# Altium integrated library Cypress Communication Transceiver.IntLib: 7 symbols
Pins are listed as number, name and electrical type; pins without a type are passive.

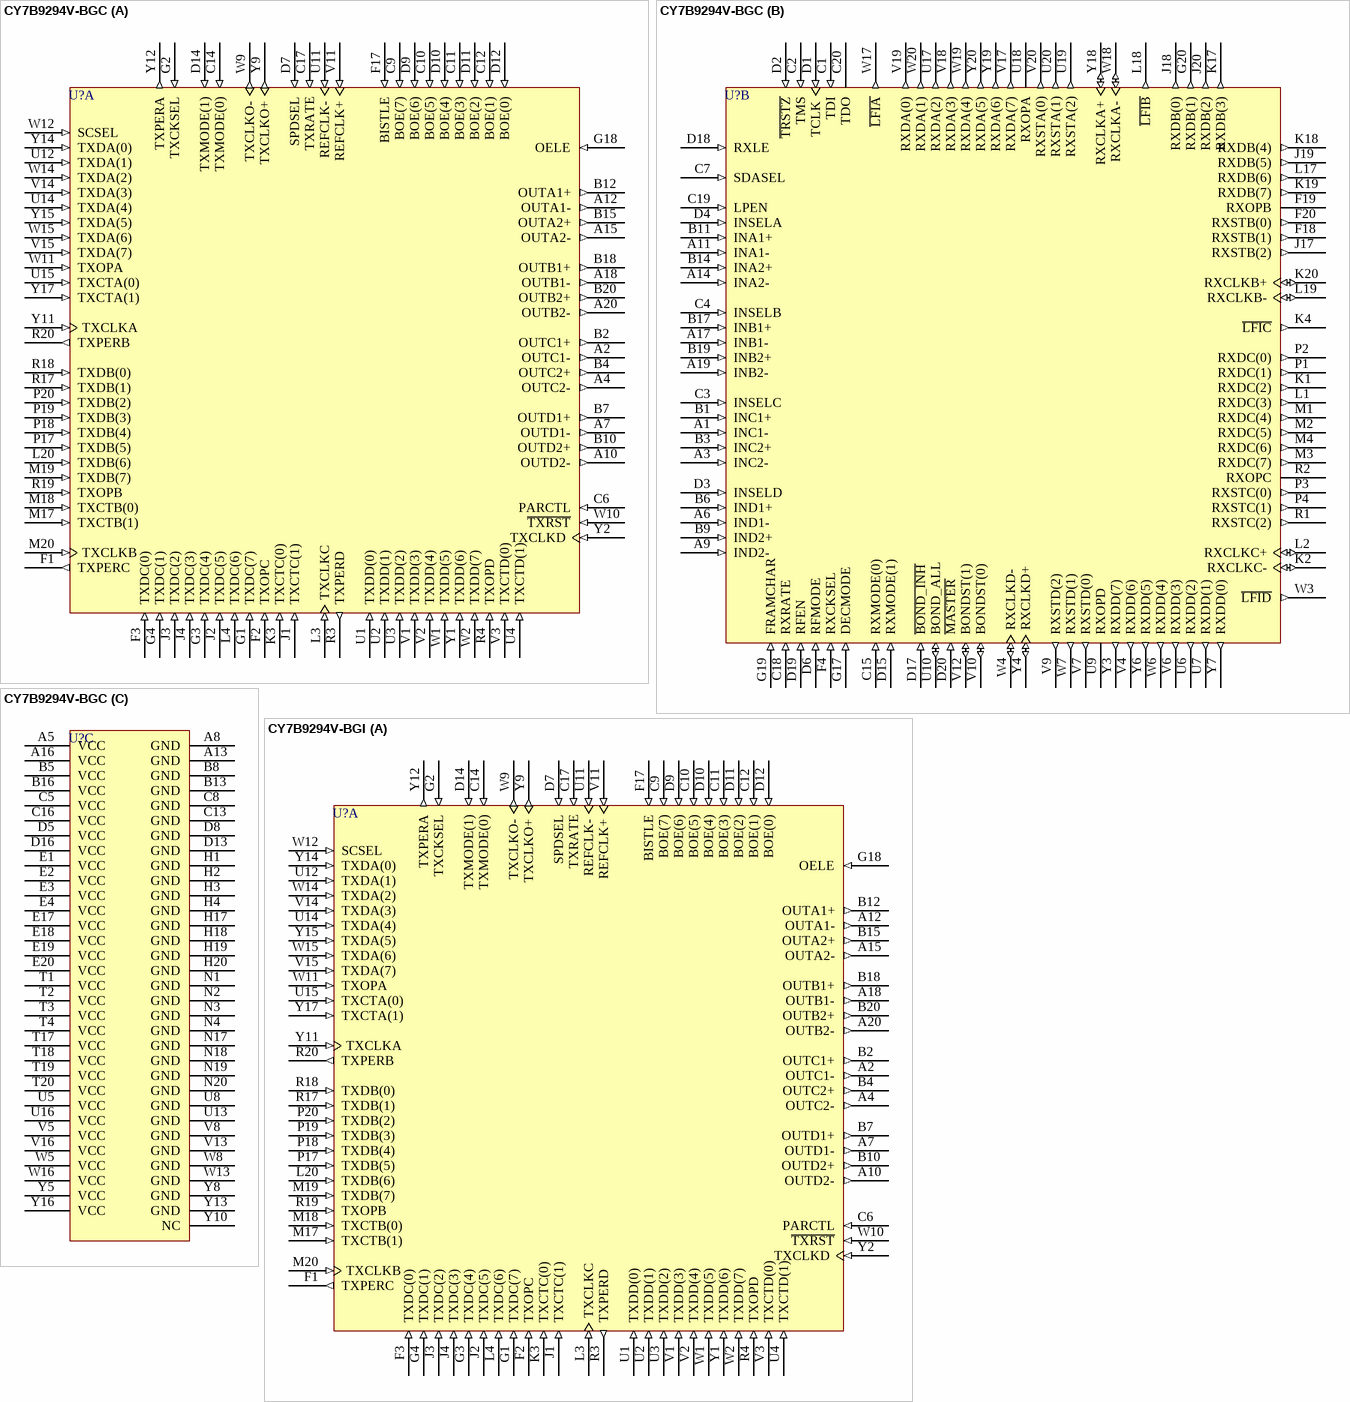
[diagram p0: symbols CY7B9294V-BGC to CY7B9294V-BGI]

## CY7B9294V-BGC
designator U?
Quad HOTLink-II Transceiver; Published: 11-Dec-2002; LatestRevisionDate: 13-Apr-2006; LatestRevisionNote: IPC-7351 Footprint Added.; DatasheetVersion: 27-Feb-2001; PackageVersion: Feb-2001; PackageReference: BG256A; Publisher: Altium Limited; PackageDescription: 256-Ball Thermally Enhanced Ball Grid Array 1.27 mm Pitch; ComponentLink1Description: Manufacturer Link; ComponentLink1URL: http://www.cypress.com/
footprint BG256A (BGA, 256-Leads, Body 27x27mm, Pitch 1.27mm)
3D model CY7B9294V-BG256A (256-Ball Thermally Enhanced Ball Grid Array 1.27 mm Pitch)
part A pins: A2 OUTC1- (out), A4 OUTC2- (out), A7 OUTD1- (out), A10 OUTD2- (out), A12 OUTA1- (out), A15 OUTA2- (out), A18 OUTB1- (out), A20 OUTB2- (out), B2 OUTC1+ (out), B4 OUTC2+ (out), B7 OUTD1+ (out), B10 OUTD2+ (out), B12 OUTA1+ (out), B15 OUTA2+ (out), B18 OUTB1+ (out), B20 OUTB2+ (out), C6 PARCTL (in), C9 BOE(7) (in), C10 BOE(5) (in), C11 BOE(3) (in), C12 BOE(1) (in), C14 TXMODE(0) (in), C17 TXRATE (in), D7 SPDSEL (in), D9 BOE(6) (in), D10 BOE(4) (in), D11 BOE(2) (in), D12 BOE(0) (in), D14 TXMODE(1) (in), F1 TXPERC (out), F2 TXOPC (in), F3 TXDC(0) (in), F17 BISTLE (in), G1 TXDC(7) (in), G2 TXCKSEL (in), G3 TXDC(4) (in), G4 TXDC(1) (in), G18 OELE (in), J1 TXCTC(1) (in), J2 TXDC(5) (in), J3 TXDC(2) (in), J4 TXDC(3) (in), K3 TXCTC(0) (in), L3 TXCLKC (in), L4 TXDC(6) (in), L20 TXDB(6) (in), M17 TXCTB(1) (in), M18 TXCTB(0) (in), M19 TXDB(7) (in), M20 TXCLKB (in), P17 TXDB(5) (in), P18 TXDB(4) (in), P19 TXDB(3) (in), P20 TXDB(2) (in), R3 TXPERD (out), R4 TXOPD (in), R17 TXDB(1) (in), R18 TXDB(0) (in), R19 TXOPB (in), R20 TXPERB (out), U1 TXDD(0) (in), U2 TXDD(1) (in), U3 TXDD(2) (in), U4 TXCTD(1) (in), U11 REFCLK- (in), U12 TXDA(1) (in), U14 TXDA(4) (in), U15 TXCTA(0) (in), V1 TXDD(3) (in), V2 TXDD(4) (in), V3 TXCTD(0) (in), V11 REFCLK+ (in), V14 TXDA(3) (in), V15 TXDA(7) (in), W1 TXDD(5) (in), W2 TXDD(7) (in), W9 TXCLKO- (out), W10 ~{TXRST} (in), W11 TXOPA (in), W12 SCSEL (in), W14 TXDA(2) (in), W15 TXDA(6) (in), Y1 TXDD(6) (in), Y2 TXCLKD (in), Y9 TXCLKO+ (out), Y11 TXCLKA (in), Y12 TXPERA (out), Y14 TXDA(0) (in), Y15 TXDA(5) (in), Y17 TXCTA(1) (in)
part B pins: A1 INC1- (in), A3 INC2- (in), A6 IND1- (in), A9 IND2- (in), A11 INA1- (in), A14 INA2- (in), A17 INB1- (in), A19 INB2- (in), B1 INC1+ (in), B3 INC2+ (in), B6 IND1+ (in), B9 IND2+ (in), B11 INA1+ (in), B14 INA2+ (in), B17 INB1+ (in), B19 INB2+ (in), C1 TDI (in), C2 TMS (in), C3 INSELC (in), C4 INSELB (in), C7 SDASEL (in), C15 RXMODE(0) (in), C18 RXRATE (in), C19 LPEN (in), C20 TDO (hiz), D1 TCLK (in), D2 ~{TRSTZ} (in), D3 INSELD (in), D4 INSELA (in), D6 RFMODE (in), D15 RXMODE(1) (in), D17 ~{BOND_INH} (in), D18 RXLE (in), D19 RFEN (in), D20 ~{MASTER} (in), F4 RXCKSEL (in), F18 RXSTB(1) (out), F19 RXOPB (hiz), F20 RXSTB(0) (out), G17 DECMODE (in), G19 FRAMCHAR (in), G20 RXDB(1) (out), J17 RXSTB(2) (out), J18 RXDB(0) (out), J19 RXDB(5) (out), J20 RXDB(2) (out), K1 RXDC(2) (out), K2 RXCLKC- (io), K4 ~{LFIC} (out), K17 RXDB(3) (out), K18 RXDB(4) (out), K19 RXDB(7) (out), K20 RXCLKB+ (io), L1 RXDC(3) (out), L2 RXCLKC+ (io), L17 RXDB(6) (out), L18 ~{LFIB} (out), L19 RXCLKB- (io), M1 RXDC(4) (out), M2 RXDC(5) (out), M3 RXDC(7) (out), M4 RXDC(6) (out), P1 RXDC(1) (out), P2 RXDC(0) (out), P3 RXSTC(0) (out), P4 RXSTC(1) (out), R1 RXSTC(2) (out), R2 RXOPC (hiz), U6 RXDD(2) (out), U7 RXDD(1) (out), U9 RXOPD (hiz), U10 BOND_ALL (io), U17 RXDA(2) (out), U18 RXOPA (hiz), U19 RXSTA(2) (out), U20 RXSTA(1) (out), V4 RXDD(6) (out), V6 RXDD(3) (out), V7 RXSTD(0) (out), V9 RXSTD(2) (out), V10 BONDST(0) (io), V12 BONDST(1) (io), V17 RXDA(7) (out), V18 RXDA(3) (out), V19 RXDA(0) (out), V20 RXSTA(0) (out), W3 ~{LFID} (out), W4 RXCLKD- (io), W6 RXDD(4) (out), W7 RXSTD(1) (out), W17 ~{LFIA} (out), W18 RXCLKA- (io), W19 RXDA(4) (out), W20 RXDA(1) (out), Y3 RXDD(7) (out), Y4 RXCLKD+ (io), Y6 RXDD(5) (out), Y7 RXDD(0) (out), Y18 RXCLKA+ (io), Y19 RXDA(6) (out), Y20 RXDA(5) (out)
part C pins: A5 VCC (power), A8 GND (power), A13 GND (power), A16 VCC (power), B5 VCC (power), B8 GND (power), B13 GND (power), B16 VCC (power), C5 VCC (power), C8 GND (power), C13 GND (power), C16 VCC (power), D5 VCC (power), D8 GND (power), D13 GND (power), D16 VCC (power), E1 VCC (power), E2 VCC (power), E3 VCC (power), E4 VCC (power), E17 VCC (power), E18 VCC (power), E19 VCC (power), E20 VCC (power), H1 GND (power), H2 GND (power), H3 GND (power), H4 GND (power), H17 GND (power), H18 GND (power), H19 GND (power), H20 GND (power), N1 GND (power), N2 GND (power), N3 GND (power), N4 GND (power), N17 GND (power), N18 GND (power), N19 GND (power), N20 GND (power), T1 VCC (power), T2 VCC (power), T3 VCC (power), T4 VCC (power), T17 VCC (power), T18 VCC (power), T19 VCC (power), T20 VCC (power), U5 VCC (power), U8 GND (power), U13 GND (power), U16 VCC (power), V5 VCC (power), V8 GND (power), V13 GND (power), V16 VCC (power), W5 VCC (power), W8 GND (power), W13 GND (power), W16 VCC (power), Y5 VCC (power), Y8 GND (power), Y10 NC, Y13 GND (power), Y16 VCC (power)

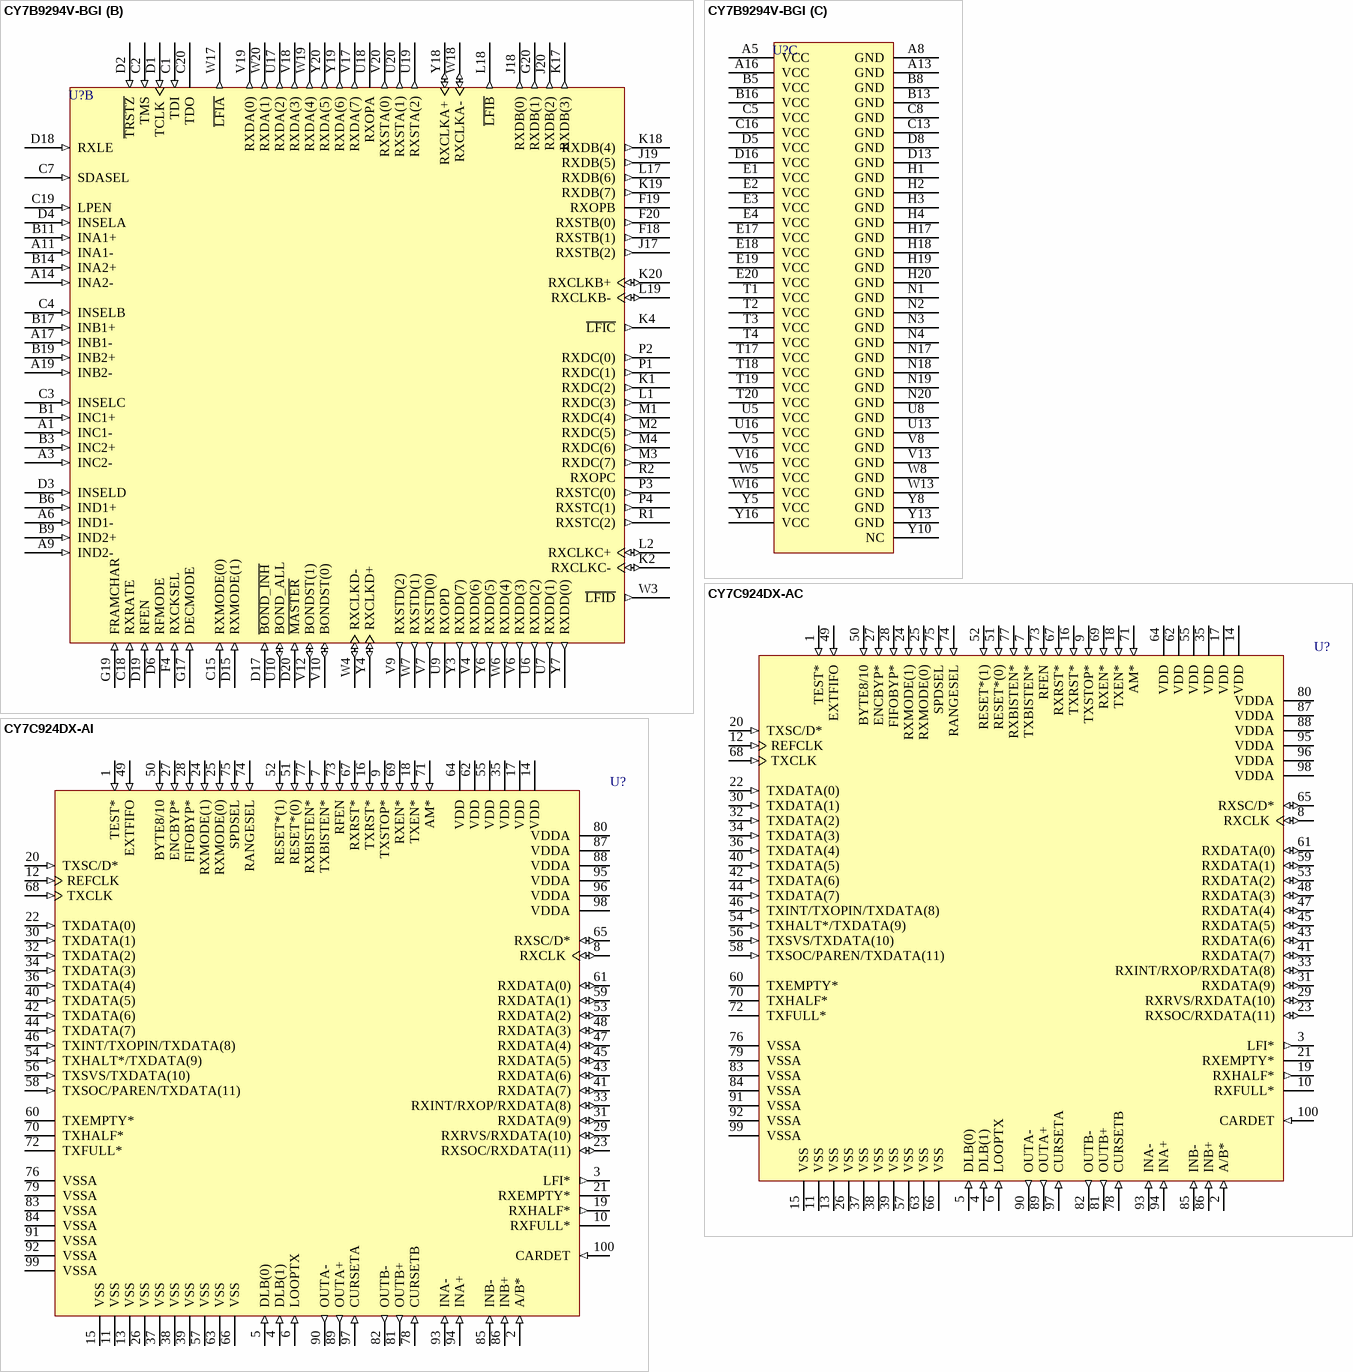
[diagram p1: symbols CY7B9294V-BGI to CY7C924DX-AI]

## CY7B9294V-BGI
designator U?
Quad HOTLink-II Transceiver; Published: 11-Dec-2002; LatestRevisionDate: 13-Apr-2006; LatestRevisionNote: IPC-7351 Footprint Added.; DatasheetVersion: 27-Feb-2001; PackageVersion: Feb-2001; PackageReference: BG256A; Publisher: Altium Limited; PackageDescription: 256-Ball Thermally Enhanced Ball Grid Array 1.27 mm Pitch; ComponentLink1Description: Manufacturer Link; ComponentLink1URL: http://www.cypress.com/
footprint BG256A (BGA, 256-Leads, Body 27x27mm, Pitch 1.27mm)
3D model CY7B9294V-BG256A (256-Ball Thermally Enhanced Ball Grid Array 1.27 mm Pitch)
part A pins: A2 OUTC1- (out), A4 OUTC2- (out), A7 OUTD1- (out), A10 OUTD2- (out), A12 OUTA1- (out), A15 OUTA2- (out), A18 OUTB1- (out), A20 OUTB2- (out), B2 OUTC1+ (out), B4 OUTC2+ (out), B7 OUTD1+ (out), B10 OUTD2+ (out), B12 OUTA1+ (out), B15 OUTA2+ (out), B18 OUTB1+ (out), B20 OUTB2+ (out), C6 PARCTL (in), C9 BOE(7) (in), C10 BOE(5) (in), C11 BOE(3) (in), C12 BOE(1) (in), C14 TXMODE(0) (in), C17 TXRATE (in), D7 SPDSEL (in), D9 BOE(6) (in), D10 BOE(4) (in), D11 BOE(2) (in), D12 BOE(0) (in), D14 TXMODE(1) (in), F1 TXPERC (out), F2 TXOPC (in), F3 TXDC(0) (in), F17 BISTLE (in), G1 TXDC(7) (in), G2 TXCKSEL (in), G3 TXDC(4) (in), G4 TXDC(1) (in), G18 OELE (in), J1 TXCTC(1) (in), J2 TXDC(5) (in), J3 TXDC(2) (in), J4 TXDC(3) (in), K3 TXCTC(0) (in), L3 TXCLKC (in), L4 TXDC(6) (in), L20 TXDB(6) (in), M17 TXCTB(1) (in), M18 TXCTB(0) (in), M19 TXDB(7) (in), M20 TXCLKB (in), P17 TXDB(5) (in), P18 TXDB(4) (in), P19 TXDB(3) (in), P20 TXDB(2) (in), R3 TXPERD (out), R4 TXOPD (in), R17 TXDB(1) (in), R18 TXDB(0) (in), R19 TXOPB (in), R20 TXPERB (out), U1 TXDD(0) (in), U2 TXDD(1) (in), U3 TXDD(2) (in), U4 TXCTD(1) (in), U11 REFCLK- (in), U12 TXDA(1) (in), U14 TXDA(4) (in), U15 TXCTA(0) (in), V1 TXDD(3) (in), V2 TXDD(4) (in), V3 TXCTD(0) (in), V11 REFCLK+ (in), V14 TXDA(3) (in), V15 TXDA(7) (in), W1 TXDD(5) (in), W2 TXDD(7) (in), W9 TXCLKO- (out), W10 ~{TXRST} (in), W11 TXOPA (in), W12 SCSEL (in), W14 TXDA(2) (in), W15 TXDA(6) (in), Y1 TXDD(6) (in), Y2 TXCLKD (in), Y9 TXCLKO+ (out), Y11 TXCLKA (in), Y12 TXPERA (out), Y14 TXDA(0) (in), Y15 TXDA(5) (in), Y17 TXCTA(1) (in)
part B pins: A1 INC1- (in), A3 INC2- (in), A6 IND1- (in), A9 IND2- (in), A11 INA1- (in), A14 INA2- (in), A17 INB1- (in), A19 INB2- (in), B1 INC1+ (in), B3 INC2+ (in), B6 IND1+ (in), B9 IND2+ (in), B11 INA1+ (in), B14 INA2+ (in), B17 INB1+ (in), B19 INB2+ (in), C1 TDI (in), C2 TMS (in), C3 INSELC (in), C4 INSELB (in), C7 SDASEL (in), C15 RXMODE(0) (in), C18 RXRATE (in), C19 LPEN (in), C20 TDO (hiz), D1 TCLK (in), D2 ~{TRSTZ} (in), D3 INSELD (in), D4 INSELA (in), D6 RFMODE (in), D15 RXMODE(1) (in), D17 ~{BOND_INH} (in), D18 RXLE (in), D19 RFEN (in), D20 ~{MASTER} (in), F4 RXCKSEL (in), F18 RXSTB(1) (out), F19 RXOPB (hiz), F20 RXSTB(0) (out), G17 DECMODE (in), G19 FRAMCHAR (in), G20 RXDB(1) (out), J17 RXSTB(2) (out), J18 RXDB(0) (out), J19 RXDB(5) (out), J20 RXDB(2) (out), K1 RXDC(2) (out), K2 RXCLKC- (io), K4 ~{LFIC} (out), K17 RXDB(3) (out), K18 RXDB(4) (out), K19 RXDB(7) (out), K20 RXCLKB+ (io), L1 RXDC(3) (out), L2 RXCLKC+ (io), L17 RXDB(6) (out), L18 ~{LFIB} (out), L19 RXCLKB- (io), M1 RXDC(4) (out), M2 RXDC(5) (out), M3 RXDC(7) (out), M4 RXDC(6) (out), P1 RXDC(1) (out), P2 RXDC(0) (out), P3 RXSTC(0) (out), P4 RXSTC(1) (out), R1 RXSTC(2) (out), R2 RXOPC (hiz), U6 RXDD(2) (out), U7 RXDD(1) (out), U9 RXOPD (hiz), U10 BOND_ALL (io), U17 RXDA(2) (out), U18 RXOPA (hiz), U19 RXSTA(2) (out), U20 RXSTA(1) (out), V4 RXDD(6) (out), V6 RXDD(3) (out), V7 RXSTD(0) (out), V9 RXSTD(2) (out), V10 BONDST(0) (io), V12 BONDST(1) (io), V17 RXDA(7) (out), V18 RXDA(3) (out), V19 RXDA(0) (out), V20 RXSTA(0) (out), W3 ~{LFID} (out), W4 RXCLKD- (io), W6 RXDD(4) (out), W7 RXSTD(1) (out), W17 ~{LFIA} (out), W18 RXCLKA- (io), W19 RXDA(4) (out), W20 RXDA(1) (out), Y3 RXDD(7) (out), Y4 RXCLKD+ (io), Y6 RXDD(5) (out), Y7 RXDD(0) (out), Y18 RXCLKA+ (io), Y19 RXDA(6) (out), Y20 RXDA(5) (out)
part C pins: A5 VCC (power), A8 GND (power), A13 GND (power), A16 VCC (power), B5 VCC (power), B8 GND (power), B13 GND (power), B16 VCC (power), C5 VCC (power), C8 GND (power), C13 GND (power), C16 VCC (power), D5 VCC (power), D8 GND (power), D13 GND (power), D16 VCC (power), E1 VCC (power), E2 VCC (power), E3 VCC (power), E4 VCC (power), E17 VCC (power), E18 VCC (power), E19 VCC (power), E20 VCC (power), H1 GND (power), H2 GND (power), H3 GND (power), H4 GND (power), H17 GND (power), H18 GND (power), H19 GND (power), H20 GND (power), N1 GND (power), N2 GND (power), N3 GND (power), N4 GND (power), N17 GND (power), N18 GND (power), N19 GND (power), N20 GND (power), T1 VCC (power), T2 VCC (power), T3 VCC (power), T4 VCC (power), T17 VCC (power), T18 VCC (power), T19 VCC (power), T20 VCC (power), U5 VCC (power), U8 GND (power), U13 GND (power), U16 VCC (power), V5 VCC (power), V8 GND (power), V13 GND (power), V16 VCC (power), W5 VCC (power), W8 GND (power), W13 GND (power), W16 VCC (power), Y5 VCC (power), Y8 GND (power), Y10 NC, Y13 GND (power), Y16 VCC (power)

## CY7C924DX-AC
designator U?
200-Mbaud HOTLink Transceiver; Published: 11-Dec-2002; LatestRevisionDate: 13-Apr-2006; LatestRevisionNote: IPC-7351 Footprint Added.; DatasheetVersion: 14-Jun-2000; PackageVersion: Mar-2001; PackageReference: A100; Publisher: Altium Limited; PackageDescription: 100-Pin Thin Quad Flat Pack 0.5 mm Pitch; ComponentLink1Description: Manufacturer Link; ComponentLink1URL: http://www.cypress.com/; ComponentLink2Description: Datasheet; ComponentLink2URL: http://www.cypress.com/portal/server.pt/gateway/PTARGS_0_2_1524_209_259_43/http%3B/sjapp20.mis.cypress.com%3B7001/publishedcontent/publish/design_resources/datasheets/contents/cy7c924adx_5.pdf
footprint A100_N (Thin QFP, 100-Leads, Body 14x14mm, Pitch 0.5mm, IPC Medium Density)
footprint A100_L (Thin QFP, 100-Leads, Body 14x14mm, Pitch 0.5mm, IPC High Density)
footprint A100_M (Thin QFP, 100-Leads, Body 14x14mm, Pitch 0.5mm, IPC Low Density)
3D model CY7C924DX-A100 (100-Pin Thin Quad Flat Pack 0.5 mm Pitch)
pins: 1 TEST* (in), 2 A/B* (in), 3 LFI* (out), 4 DLB(1) (in), 5 DLB(0) (in), 6 LOOPTX (in), 7 TXBISTEN* (in), 8 RXCLK (io), 9 TXSTOP* (in), 10 RXFULL* (hiz), 11 VSS (power), 12 REFCLK (in), 13 VSS (power), 14 VDD (power), 15 VSS (power), 16 TXRST* (in), 17 VDD (power), 18 TXEN* (in), 19 RXHALF* (out), 20 TXSC/D* (in), 21 RXEMPTY* (hiz), 22 TXDATA(0) (in), 23 RXSOC/RXDATA(11) (io), 24 RXMODE(1) (in), 25 RXMODE(0) (in), 26 VSS (power), 27 ENCBYP* (in), 28 FIFOBYP* (in), 29 RXRVS/RXDATA(10) (io), 30 TXDATA(1) (in), 31 RXDATA(9) (io), 32 TXDATA(2) (in), 33 RXINT/RXOP/RXDATA(8) (io), 34 TXDATA(3) (in), 35 VDD (power), 36 TXDATA(4) (in), 37 VSS (power), 38 VSS (power), 39 VSS (power), 40 TXDATA(5) (in), 41 RXDATA(7) (io), 42 TXDATA(6) (in), 43 RXDATA(6) (io), 44 TXDATA(7) (in), 45 RXDATA(5) (io), 46 TXINT/TXOPIN/TXDATA(8) (in), 47 RXDATA(4) (io), 48 RXDATA(3) (io), 49 EXTFIFO (in), 50 BYTE8/10 (in), 51 RESET*(0) (in), 52 RESET*(1) (in), 53 RXDATA(2) (io), 54 TXHALT*/TXDATA(9) (in), 55 VDD (power), 56 TXSVS/TXDATA(10) (in), 57 VSS (power), 58 TXSOC/PAREN/TXDATA(11) (in), 59 RXDATA(1) (io), 60 TXEMPTY* (hiz), 61 RXDATA(0) (io), 62 VDD (power), 63 VSS (power), 64 VDD (power), 65 RXSC/D* (io), 66 VSS (power), 67 RXRST* (in), 68 TXCLK (in), 69 RXEN* (in), 70 TXHALF* (hiz), 71 AM* (in), 72 TXFULL* (hiz), 73 RFEN (in), 74 RANGESEL (in), 75 SPDSEL (in), 76 VSSA (power), 77 RXBISTEN* (in), 78 CURSETB (in), 79 VSSA (power), 80 VDDA (power), 81 OUTB+ (out), 82 OUTB- (out), 83 VSSA (power), 84 VSSA (power), 85 INB- (in), 86 INB+ (in), 87 VDDA (power), 88 VDDA (power), 89 OUTA+ (out), 90 OUTA- (out), 91 VSSA (power), 92 VSSA (power), 93 INA- (in), 94 INA+ (in), 95 VDDA (power), 96 VDDA (power), 97 CURSETA (in), 98 VDDA (power), 99 VSSA (power), 100 CARDET (in)

## CY7C924DX-AI
designator U?
200-Mbaud HOTLink Transceiver; Published: 11-Dec-2002; LatestRevisionDate: 13-Apr-2006; LatestRevisionNote: IPC-7351 Footprint Added.; DatasheetVersion: 14-Jun-2000; PackageVersion: Mar-2001; PackageReference: A100; Publisher: Altium Limited; PackageDescription: 100-Pin Thin Quad Flat Pack 0.5 mm Pitch; ComponentLink1Description: Manufacturer Link; ComponentLink1URL: http://www.cypress.com/; ComponentLink2Description: Datasheet; ComponentLink2URL: http://www.cypress.com/portal/server.pt/gateway/PTARGS_0_2_1524_209_259_43/http%3B/sjapp20.mis.cypress.com%3B7001/publishedcontent/publish/design_resources/datasheets/contents/cy7c924adx_5.pdf
footprint A100_N (Thin QFP, 100-Leads, Body 14x14mm, Pitch 0.5mm, IPC Medium Density)
footprint A100_L (Thin QFP, 100-Leads, Body 14x14mm, Pitch 0.5mm, IPC High Density)
footprint A100_M (Thin QFP, 100-Leads, Body 14x14mm, Pitch 0.5mm, IPC Low Density)
3D model CY7C924DX-A100 (100-Pin Thin Quad Flat Pack 0.5 mm Pitch)
pins: 1 TEST* (in), 2 A/B* (in), 3 LFI* (out), 4 DLB(1) (in), 5 DLB(0) (in), 6 LOOPTX (in), 7 TXBISTEN* (in), 8 RXCLK (io), 9 TXSTOP* (in), 10 RXFULL* (hiz), 11 VSS (power), 12 REFCLK (in), 13 VSS (power), 14 VDD (power), 15 VSS (power), 16 TXRST* (in), 17 VDD (power), 18 TXEN* (in), 19 RXHALF* (out), 20 TXSC/D* (in), 21 RXEMPTY* (hiz), 22 TXDATA(0) (in), 23 RXSOC/RXDATA(11) (io), 24 RXMODE(1) (in), 25 RXMODE(0) (in), 26 VSS (power), 27 ENCBYP* (in), 28 FIFOBYP* (in), 29 RXRVS/RXDATA(10) (io), 30 TXDATA(1) (in), 31 RXDATA(9) (io), 32 TXDATA(2) (in), 33 RXINT/RXOP/RXDATA(8) (io), 34 TXDATA(3) (in), 35 VDD (power), 36 TXDATA(4) (in), 37 VSS (power), 38 VSS (power), 39 VSS (power), 40 TXDATA(5) (in), 41 RXDATA(7) (io), 42 TXDATA(6) (in), 43 RXDATA(6) (io), 44 TXDATA(7) (in), 45 RXDATA(5) (io), 46 TXINT/TXOPIN/TXDATA(8) (in), 47 RXDATA(4) (io), 48 RXDATA(3) (io), 49 EXTFIFO (in), 50 BYTE8/10 (in), 51 RESET*(0) (in), 52 RESET*(1) (in), 53 RXDATA(2) (io), 54 TXHALT*/TXDATA(9) (in), 55 VDD (power), 56 TXSVS/TXDATA(10) (in), 57 VSS (power), 58 TXSOC/PAREN/TXDATA(11) (in), 59 RXDATA(1) (io), 60 TXEMPTY* (hiz), 61 RXDATA(0) (io), 62 VDD (power), 63 VSS (power), 64 VDD (power), 65 RXSC/D* (io), 66 VSS (power), 67 RXRST* (in), 68 TXCLK (in), 69 RXEN* (in), 70 TXHALF* (hiz), 71 AM* (in), 72 TXFULL* (hiz), 73 RFEN (in), 74 RANGESEL (in), 75 SPDSEL (in), 76 VSSA (power), 77 RXBISTEN* (in), 78 CURSETB (in), 79 VSSA (power), 80 VDDA (power), 81 OUTB+ (out), 82 OUTB- (out), 83 VSSA (power), 84 VSSA (power), 85 INB- (in), 86 INB+ (in), 87 VDDA (power), 88 VDDA (power), 89 OUTA+ (out), 90 OUTA- (out), 91 VSSA (power), 92 VSSA (power), 93 INA- (in), 94 INA+ (in), 95 VDDA (power), 96 VDDA (power), 97 CURSETA (in), 98 VDDA (power), 99 VSSA (power), 100 CARDET (in)

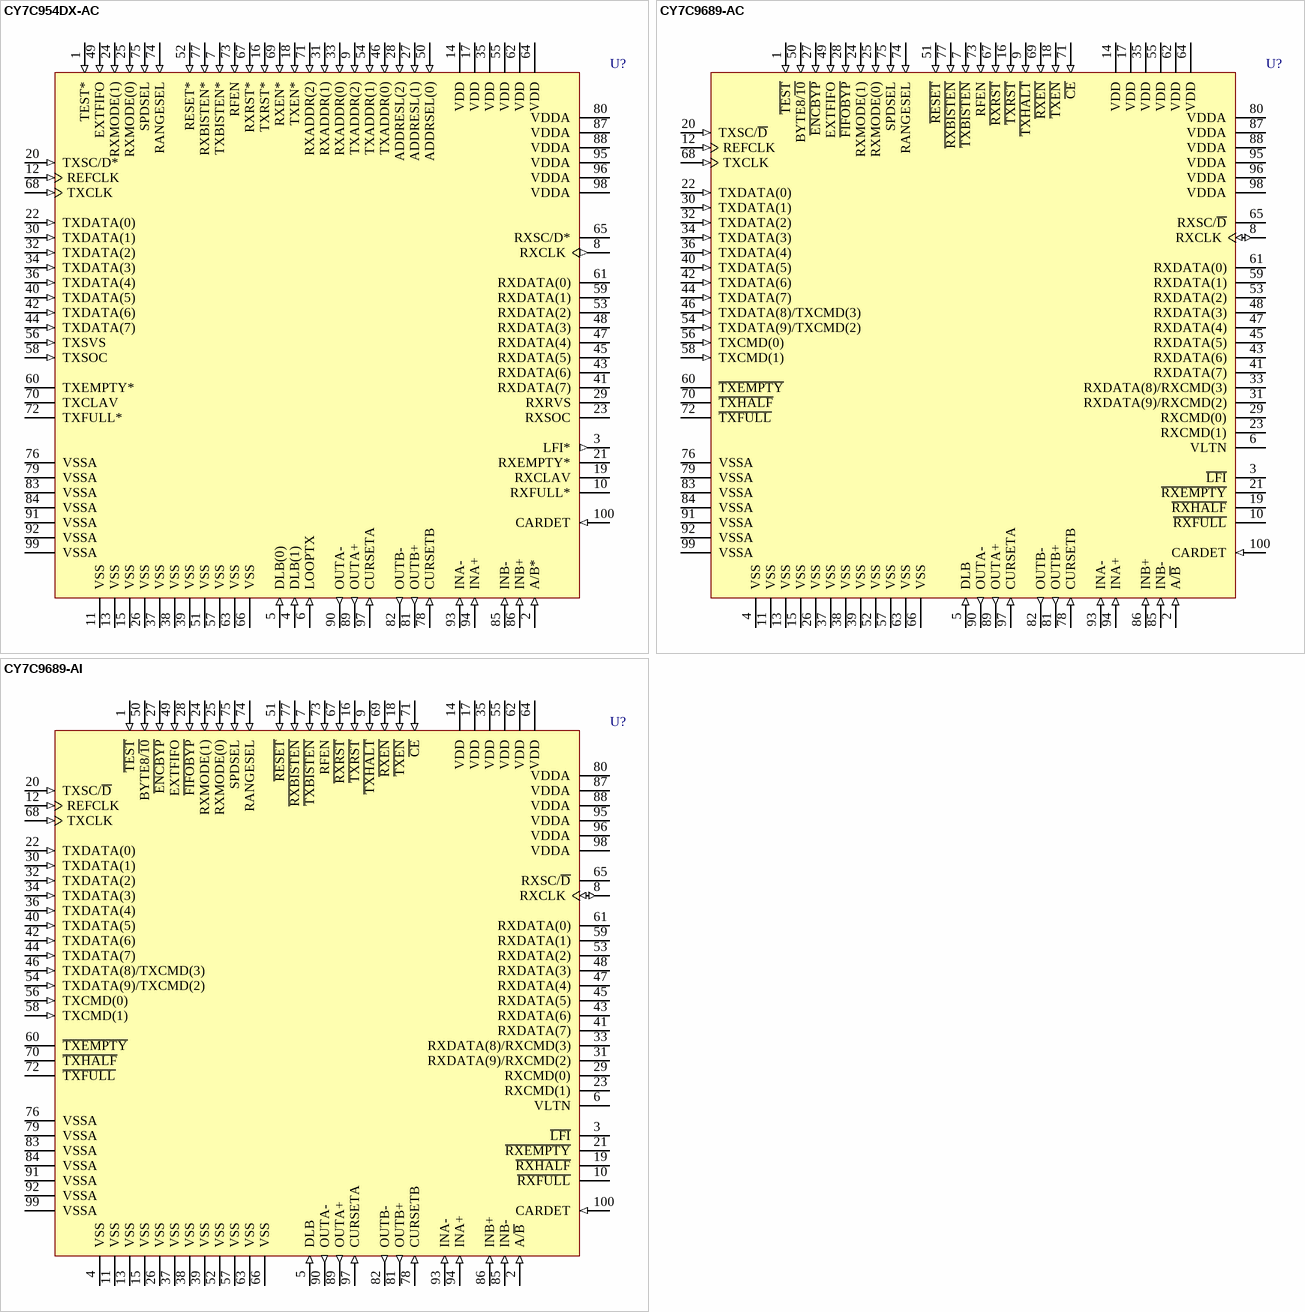
[diagram p2: symbols CY7C954DX-AC to CY7C9689-AI]

## CY7C954DX-AC
designator U?
ATM HOTLink Transceiver; Published: 11-Dec-2002; LatestRevisionDate: 13-Apr-2006; LatestRevisionNote: IPC-7351 Footprint Added.; DatasheetVersion: 10-Jun-2000; PackageVersion: Mar-2001; PackageReference: A100; Publisher: Altium Limited; PackageDescription: 100-Pin Thin Quad Flat Pack 0.5 mm Pitch; ComponentLink1Description: Manufacturer Link; ComponentLink1URL: http://www.cypress.com/
footprint A100_N (Thin QFP, 100-Leads, Body 14x14mm, Pitch 0.5mm, IPC Medium Density)
footprint A100_L (Thin QFP, 100-Leads, Body 14x14mm, Pitch 0.5mm, IPC High Density)
footprint A100_M (Thin QFP, 100-Leads, Body 14x14mm, Pitch 0.5mm, IPC Low Density)
3D model CY7C924DX-A100 (100-Pin Thin Quad Flat Pack 0.5 mm Pitch)
pins: 1 TEST* (in), 2 A/B* (in), 3 LFI* (out), 4 DLB(1) (in), 5 DLB(0) (in), 6 LOOPTX (in), 7 TXBISTEN* (in), 8 RXCLK (out), 9 TXADDR(2) (in), 10 RXFULL* (hiz), 11 VSS (power), 12 REFCLK (in), 13 VSS (power), 14 VDD (power), 15 VSS (power), 16 TXRST* (in), 17 VDD (power), 18 TXEN* (in), 19 RXCLAV (hiz), 20 TXSC/D* (in), 21 RXEMPTY* (hiz), 22 TXDATA(0) (in), 23 RXSOC (hiz), 24 RXMODE(1) (in), 25 RXMODE(0) (in), 26 VSS (power), 27 ADDRESL(1) (in), 28 ADDRESL(2) (in), 29 RXRVS (hiz), 30 TXDATA(1) (in), 31 RXADDR(1) (in), 32 TXDATA(2) (in), 33 RXADDR(0) (in), 34 TXDATA(3) (in), 35 VDD (power), 36 TXDATA(4) (in), 37 VSS (power), 38 VSS (power), 39 VSS (power), 40 TXDATA(5) (in), 41 RXDATA(7) (hiz), 42 TXDATA(6) (in), 43 RXDATA(6) (hiz), 44 TXDATA(7) (in), 45 RXDATA(5) (hiz), 46 TXADDR(0) (in), 47 RXDATA(4) (hiz), 48 RXDATA(3) (hiz), 49 EXTFIFO (in), 50 ADDRSEL(0) (in), 51 VSS (power), 52 RESET* (in), 53 RXDATA(2) (hiz), 54 TXADDR(1) (in), 55 VDD (power), 56 TXSVS (in), 57 VSS (power), 58 TXSOC (in), 59 RXDATA(1) (hiz), 60 TXEMPTY* (hiz), 61 RXDATA(0) (hiz), 62 VDD (power), 63 VSS (power), 64 VDD (power), 65 RXSC/D* (hiz), 66 VSS (power), 67 RXRST* (in), 68 TXCLK (in), 69 RXEN* (in), 70 TXCLAV (hiz), 71 RXADDR(2) (in), 72 TXFULL* (hiz), 73 RFEN (in), 74 RANGESEL (in), 75 SPDSEL (in), 76 VSSA (power), 77 RXBISTEN* (in), 78 CURSETB (in), 79 VSSA (power), 80 VDDA (power), 81 OUTB+ (out), 82 OUTB- (out), 83 VSSA (power), 84 VSSA (power), 85 INB- (in), 86 INB+ (in), 87 VDDA (power), 88 VDDA (power), 89 OUTA+ (out), 90 OUTA- (out), 91 VSSA (power), 92 VSSA (power), 93 INA- (in), 94 INA+ (in), 95 VDDA (power), 96 VDDA (power), 97 CURSETA (in), 98 VDDA (power), 99 VSSA (power), 100 CARDET (in)

## CY7C9689-AC
designator U?
TAXI Compatible HOTLink Transceiver; Published: 11-Dec-2002; LatestRevisionDate: 13-Apr-2006; LatestRevisionNote: IPC-7351 Footprint Added.; DatasheetVersion: 14-Jun-2000; PackageVersion: Mar-2001; PackageReference: A100; Publisher: Altium Limited; PackageDescription: 100-Pin Thin Quad Flat Pack 0.5 mm Pitch; ComponentLink1Description: Manufacturer Link; ComponentLink1URL: http://www.cypress.com/; ComponentLink2Description: Datasheet; ComponentLink2URL: http://www.cypress.com/portal/server.pt/gateway/PTARGS_0_2_1524_209_259_43/http%3B/sjapp20.mis.cypress.com%3B7001/publishedcontent/publish/design_resources/datasheets/contents/cy7c9689a_5.pdf
footprint A100_N (Thin QFP, 100-Leads, Body 14x14mm, Pitch 0.5mm, IPC Medium Density)
footprint A100_L (Thin QFP, 100-Leads, Body 14x14mm, Pitch 0.5mm, IPC High Density)
footprint A100_M (Thin QFP, 100-Leads, Body 14x14mm, Pitch 0.5mm, IPC Low Density)
3D model CY7C9689-A100 (100-Pin Thin Quad Flat Pack 0.5 mm Pitch)
pins: 1 ~{TEST} (in), 2 A/~{B} (in), 3 ~{LFI} (hiz), 4 VSS (power), 5 DLB (in), 6 VLTN (hiz), 7 ~{TXBISTEN} (in), 8 RXCLK (io), 9 ~{TXHALT} (in), 10 ~{RXFULL} (hiz), 11 VSS (power), 12 REFCLK (in), 13 VSS (power), 14 VDD (power), 15 VSS (power), 16 ~{TXRST} (in), 17 VDD (power), 18 ~{TXEN} (in), 19 ~{RXHALF} (hiz), 20 TXSC/~{D} (in), 21 ~{RXEMPTY} (hiz), 22 TXDATA(0) (in), 23 RXCMD(1) (hiz), 24 RXMODE(1) (in), 25 RXMODE(0) (in), 26 VSS (power), 27 ~{ENCBYP} (in), 28 ~{FIFOBYP} (in), 29 RXCMD(0) (hiz), 30 TXDATA(1) (in), 31 RXDATA(9)/RXCMD(2) (hiz), 32 TXDATA(2) (in), 33 RXDATA(8)/RXCMD(3) (hiz), 34 TXDATA(3) (in), 35 VDD (power), 36 TXDATA(4) (in), 37 VSS (power), 38 VSS (power), 39 VSS (power), 40 TXDATA(5) (in), 41 RXDATA(7) (hiz), 42 TXDATA(6) (in), 43 RXDATA(6) (hiz), 44 TXDATA(7) (in), 45 RXDATA(5) (hiz), 46 TXDATA(8)/TXCMD(3) (in), 47 RXDATA(4) (hiz), 48 RXDATA(3) (hiz), 49 EXTFIFO (in), 50 BYTE8/~{10} (in), 51 ~{RESET} (in), 52 VSS (power), 53 RXDATA(2) (hiz), 54 TXDATA(9)/TXCMD(2) (in), 55 VDD (power), 56 TXCMD(0) (in), 57 VSS (power), 58 TXCMD(1) (in), 59 RXDATA(1) (hiz), 60 ~{TXEMPTY} (hiz), 61 RXDATA(0) (hiz), 62 VDD (power), 63 VSS (power), 64 VDD (power), 65 RXSC/~{D} (hiz), 66 VSS (power), 67 ~{RXRST} (in), 68 TXCLK (in), 69 ~{RXEN} (in), 70 ~{TXHALF} (hiz), 71 ~{CE} (in), 72 ~{TXFULL} (hiz), 73 RFEN (in), 74 RANGESEL (in), 75 SPDSEL (in), 76 VSSA (power), 77 ~{RXBISTEN} (in), 78 CURSETB (in), 79 VSSA (power), 80 VDDA (power), 81 OUTB+ (out), 82 OUTB- (out), 83 VSSA (power), 84 VSSA (power), 85 INB- (in), 86 INB+ (in), 87 VDDA (power), 88 VDDA (power), 89 OUTA+ (out), 90 OUTA- (out), 91 VSSA (power), 92 VSSA (power), 93 INA- (in), 94 INA+ (in), 95 VDDA (power), 96 VDDA (power), 97 CURSETA (in), 98 VDDA (power), 99 VSSA (power), 100 CARDET (in)

## CY7C9689-AI
designator U?
TAXI Compatible HOTLink Transceiver; Published: 11-Dec-2002; LatestRevisionDate: 13-Apr-2006; LatestRevisionNote: IPC-7351 Footprint Added.; DatasheetVersion: 14-Jun-2000; PackageVersion: Mar-2001; PackageReference: A100; Publisher: Altium Limited; PackageDescription: 100-Pin Thin Quad Flat Pack 0.5 mm Pitch; ComponentLink1Description: Manufacturer Link; ComponentLink1URL: http://www.cypress.com/; ComponentLink2Description: Datasheet; ComponentLink2URL: http://www.cypress.com/portal/server.pt/gateway/PTARGS_0_2_1524_209_259_43/http%3B/sjapp20.mis.cypress.com%3B7001/publishedcontent/publish/design_resources/datasheets/contents/cy7c9689a_5.pdf
footprint A100_N (Thin QFP, 100-Leads, Body 14x14mm, Pitch 0.5mm, IPC Medium Density)
footprint A100_L (Thin QFP, 100-Leads, Body 14x14mm, Pitch 0.5mm, IPC High Density)
footprint A100_M (Thin QFP, 100-Leads, Body 14x14mm, Pitch 0.5mm, IPC Low Density)
3D model CY7C9689-A100 (100-Pin Thin Quad Flat Pack 0.5 mm Pitch)
pins: 1 ~{TEST} (in), 2 A/~{B} (in), 3 ~{LFI} (hiz), 4 VSS (power), 5 DLB (in), 6 VLTN (hiz), 7 ~{TXBISTEN} (in), 8 RXCLK (io), 9 ~{TXHALT} (in), 10 ~{RXFULL} (hiz), 11 VSS (power), 12 REFCLK (in), 13 VSS (power), 14 VDD (power), 15 VSS (power), 16 ~{TXRST} (in), 17 VDD (power), 18 ~{TXEN} (in), 19 ~{RXHALF} (hiz), 20 TXSC/~{D} (in), 21 ~{RXEMPTY} (hiz), 22 TXDATA(0) (in), 23 RXCMD(1) (hiz), 24 RXMODE(1) (in), 25 RXMODE(0) (in), 26 VSS (power), 27 ~{ENCBYP} (in), 28 ~{FIFOBYP} (in), 29 RXCMD(0) (hiz), 30 TXDATA(1) (in), 31 RXDATA(9)/RXCMD(2) (hiz), 32 TXDATA(2) (in), 33 RXDATA(8)/RXCMD(3) (hiz), 34 TXDATA(3) (in), 35 VDD (power), 36 TXDATA(4) (in), 37 VSS (power), 38 VSS (power), 39 VSS (power), 40 TXDATA(5) (in), 41 RXDATA(7) (hiz), 42 TXDATA(6) (in), 43 RXDATA(6) (hiz), 44 TXDATA(7) (in), 45 RXDATA(5) (hiz), 46 TXDATA(8)/TXCMD(3) (in), 47 RXDATA(4) (hiz), 48 RXDATA(3) (hiz), 49 EXTFIFO (in), 50 BYTE8/~{10} (in), 51 ~{RESET} (in), 52 VSS (power), 53 RXDATA(2) (hiz), 54 TXDATA(9)/TXCMD(2) (in), 55 VDD (power), 56 TXCMD(0) (in), 57 VSS (power), 58 TXCMD(1) (in), 59 RXDATA(1) (hiz), 60 ~{TXEMPTY} (hiz), 61 RXDATA(0) (hiz), 62 VDD (power), 63 VSS (power), 64 VDD (power), 65 RXSC/~{D} (hiz), 66 VSS (power), 67 ~{RXRST} (in), 68 TXCLK (in), 69 ~{RXEN} (in), 70 ~{TXHALF} (hiz), 71 ~{CE} (in), 72 ~{TXFULL} (hiz), 73 RFEN (in), 74 RANGESEL (in), 75 SPDSEL (in), 76 VSSA (power), 77 ~{RXBISTEN} (in), 78 CURSETB (in), 79 VSSA (power), 80 VDDA (power), 81 OUTB+ (out), 82 OUTB- (out), 83 VSSA (power), 84 VSSA (power), 85 INB- (in), 86 INB+ (in), 87 VDDA (power), 88 VDDA (power), 89 OUTA+ (out), 90 OUTA- (out), 91 VSSA (power), 92 VSSA (power), 93 INA- (in), 94 INA+ (in), 95 VDDA (power), 96 VDDA (power), 97 CURSETA (in), 98 VDDA (power), 99 VSSA (power), 100 CARDET (in)